# Altium footprint library actives.PcbLib: 34 footprints (part 3 of 3)
Each footprint in its own frame and in the unit in brackets; x right, y up, seen from the top. Pads: shape width x height; smd on the part's side, far side on the other; paste and mask are expansions set on the pad; w line width, h text height; cw(c..) or ccw(c..) is an arc to the next point about the centre after c.
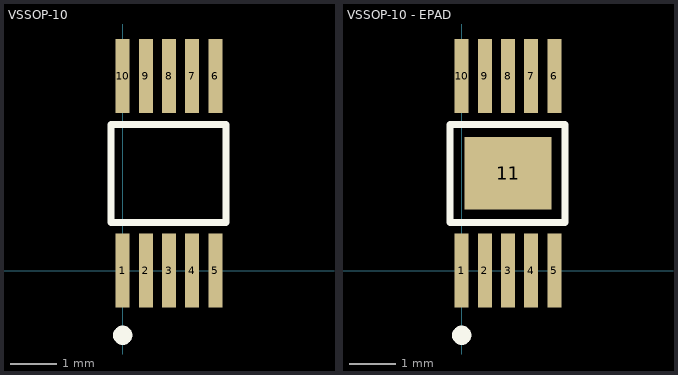
[diagram p2: the footprints below, top view; thin cyan lines are the x and y axes]

## VSSOP-10 [mm]
pads (10):
  rect 0.3x1.6 smd: 1(0,0) 2(0.5,0) 3(1,0) 4(1.5,0) 5(2,0) 6(2,4.2) 7(1.5,4.2) 8(1,4.2) 9(0.5,4.2) 10(0,4.2)
Top Overlay:
  circle w0.254: c0,-1.397 r0.08
  lines w0.15: -0.254,1.041 2.235,1.041 2.235,3.15 -0.254,3.15 -0.254,1.041

## VSSOP-10 - EPAD [mm]
pads (11):
  rect 0.3x1.6 smd: 1(0,0) 2(0.5,0) 3(1,0) 4(1.5,0) 5(2,0) 6(2,4.2) 7(1.5,4.2) 8(1,4.2) 9(0.5,4.2) 10(0,4.2)
  rect 1.88x1.57 smd: 11(1,2.1)
Top Overlay:
  circle w0.254: c0,-1.397 r0.08
  lines w0.15: -0.254,1.041 2.235,1.041 2.235,3.15 -0.254,3.15 -0.254,1.041